# EAGLE library part MTA07-100 (library con-amp)
AMP connector
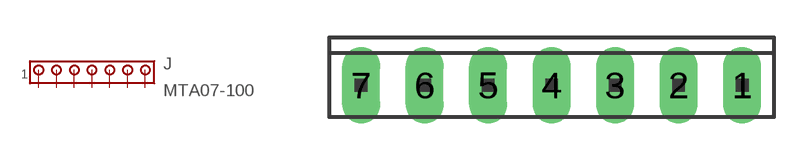
[diagram p123: symbol with the pads of 10X07MTA; footprint 10X07MTA]

Designator prefix J

## MTA07-100 (OC_FARNELL: unknown; OC_NEWARK: unknown)  [10X07MTA]
1  1  pas
2  2  pas
3  3  pas
4  4  pas
5  5  pas
6  6  pas
7  7  pas

## Footprint 10X07MTA (pad centres in mm)
AMP MTA connector Source: http://ecommas.tycoelectronics.com .. ENG_CD_640456_W.pdf
drill 1.016 long: 1 7.62,0; 2 5.08,0; 3 2.54,0; 4 0,0; 5 -2.54,0; 6 -5.08,0; 7 -7.62,0